# EAGLE library part ES920LR (library angrypig7-IC)
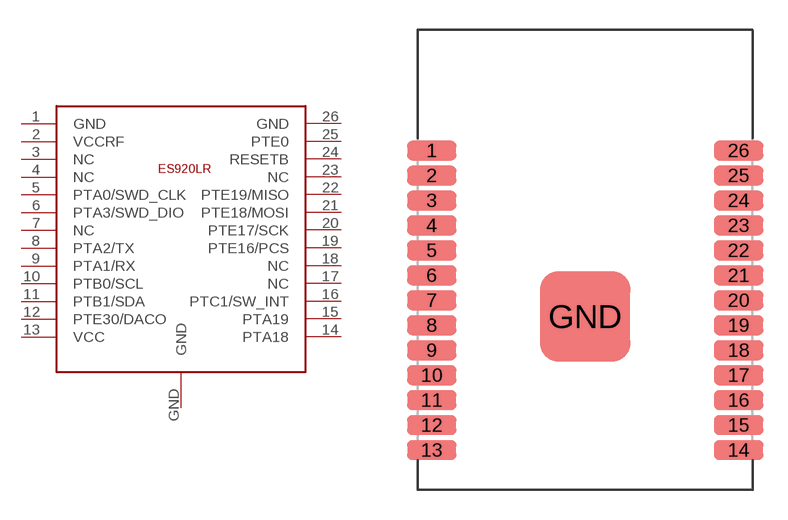
[diagram p7: symbol with the pads of ES920LR; footprint ES920LR]

Designator prefix -

## ES920LR  [ES920LR]
1  GND
2  VCCRF
3  NC
4  NC
5  PTA0/SWD_CLK
6  PTA3/SWD_DIO
7  NC
8  PTA2/TX
9  PTA1/RX
10  PTB0/SCL
11  PTB1/SDA
12  PTE30/DACO
13  VCC
14  PTA18
15  PTA19
16  PTC1/SW_INT
17  NC
18  NC
19  PTE16/PCS
20  PTE17/SCK
21  PTE18/MOSI
22  PTE19/MISO
23  NC
24  RESETB
25  PTE0
26  GND
GND  GND

## Footprint ES920LR (pad centres in mm)
smd 2.5 x 1: 1 -7.8,5.84; 2 -7.8,4.57; 3 -7.8,3.3; 4 -7.8,2.03; 5 -7.8,0.76; 6 -7.8,-0.51; 7 -7.8,-1.78; 8 -7.8,-3.05; 9 -7.8,-4.32; 10 -7.8,-5.59; 11 -7.8,-6.86; 12 -7.8,-8.13; 13 -7.8,-9.4; 14 7.8,-9.4; 15 7.8,-8.13; 16 7.8,-6.86; 17 7.8,-5.59; 18 7.8,-4.32; 19 7.8,-3.05; 20 7.8,-1.78; 21 7.8,-0.51; 22 7.8,0.76; 23 7.8,2.03; 24 7.8,3.3; 25 7.8,4.57; 26 7.8,5.84
smd 4.6 x 4.6: GND 0,-2.6